# Altium footprint library TR2I_50.PcbLib: 1 footprints
Each footprint in its own frame and in the unit in brackets; x right, y up, seen from the top. Pads: shape width x height; smd on the part's side, far side on the other; paste and mask are expansions set on the pad; w line width, h text height; cw(c..) or ccw(c..) is an arc to the next point about the centre after c.
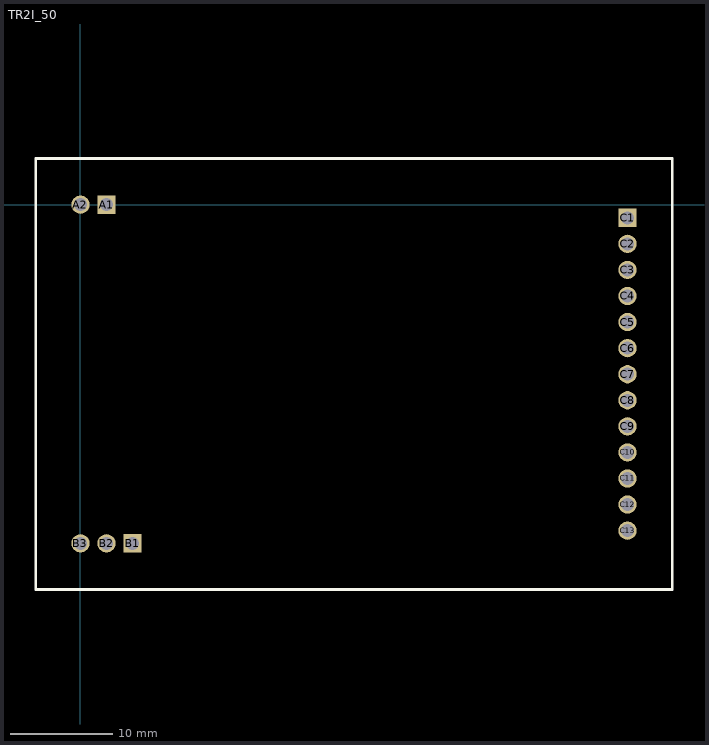
[diagram p0: the footprint, top view; thin cyan lines are the x and y axes]

## TR2I_50 [mil] "RADIO MODULE"
pads (18):
  rect 70x70 hole 50: A1(100,0) B1(200,-1299.21) C1(2098.43,-50.39)
  round 70 hole 50: A2(0,0) B2(100,-1299.21) B3(0,-1299.21) C2(2098.43,-150.39) C3(2098.43,-250.39) C4(2098.43,-350.39) C5(2098.43,-450.39) C6(2098.43,-550.39) C7(2098.43,-650.39) C8(2098.43,-750.39) C9(2098.43,-850.39) C10(2098.43,-950.39) C11(2098.43,-1050.39) C12(2098.43,-1150.39) C13(2098.43,-1250.39)
TopOverlay:
  lines w10: -171.26,-1476.38 2269.68,-1476.38 2269.68,177.17 -171.26,177.17 -171.26,-1476.38
3D body: height 393.7, standoff 0, extent -122.05,-1409.45 2200.79,106.3
3D body: height 196.85, standoff -196.85, extent -12.6,-12.6 12.6,12.6
3D body: height 196.85, standoff -196.85, extent 87.4,-12.6 112.6,12.6
3D body: height 196.85, standoff -196.85, extent 2085.83,-62.99 2111.03,-37.79
3D body: height 196.85, standoff -196.85, extent 2085.83,-162.99 2111.03,-137.79
3D body: height 196.85, standoff -196.85, extent 2085.83,-262.99 2111.03,-237.79
3D body: height 196.85, standoff -196.85, extent 2085.83,-362.99 2111.03,-337.79
3D body: height 196.85, standoff -196.85, extent 2085.83,-462.99 2111.03,-437.79
3D body: height 196.85, standoff -196.85, extent 2085.83,-562.99 2111.03,-537.79
3D body: height 196.85, standoff -196.85, extent 2085.83,-662.99 2111.03,-637.79
3D body: height 196.85, standoff -196.85, extent 2085.83,-762.99 2111.03,-737.79
3D body: height 196.85, standoff -196.85, extent 2085.83,-862.99 2111.03,-837.79
3D body: height 196.85, standoff -196.85, extent 2085.83,-962.99 2111.03,-937.79
3D body: height 196.85, standoff -196.85, extent 2085.83,-1062.99 2111.03,-1037.79
3D body: height 196.85, standoff -196.85, extent 2085.83,-1162.99 2111.03,-1137.79
3D body: height 196.85, standoff -196.85, extent 2085.83,-1262.99 2111.03,-1237.79
3D body: height 196.85, standoff -196.85, extent 187.4,-1311.81 212.6,-1286.61
3D body: height 196.85, standoff -196.85, extent 87.4,-1311.81 112.6,-1286.61
3D body: height 196.85, standoff -196.85, extent -12.6,-1311.81 12.6,-1286.61